# Altium schematic symbol library Schlib1.SchLib: 2 symbols
Pins are listed as number, name and electrical type; pins without a type are passive.

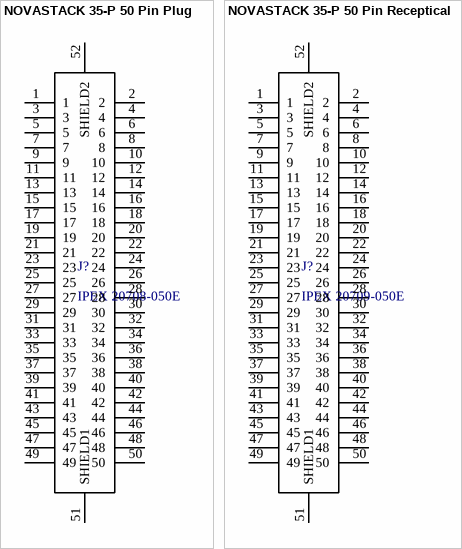
[diagram p0: symbols NOVASTACK 35-P 50 Pin Plug to NOVASTACK 35-P 50 Pin Receptical]

## NOVASTACK 35-P 50 Pin Plug
designator J?, comment IPEX 20708-050E
50-Pin Plug. Mates with 20709-050E. /
footprint IPEX_20708-050E-01
pins: 1, 2, 3, 4, 5, 6, 7, 8, 9, 10, 11, 12, 13, 14, 15, 16, 17, 18, 19, 20, 21, 22, 23, 24, 25, 26, 27, 28, 29, 30, 31, 32, 33, 34, 35, 36, 37, 38, 39, 40, 41, 42, 43, 44, 45, 46, 47, 48, 49, 50, 51 SHIELD1, 52 SHIELD2

## NOVASTACK 35-P 50 Pin Receptical
designator J?, comment IPEX 20709-050E
50-Pin Plug. Mates with 20708-050E. /
footprint IPEX_20709-050E-01_20709-050E-01(Primary)
pins: 1, 2, 3, 4, 5, 6, 7, 8, 9, 10, 11, 12, 13, 14, 15, 16, 17, 18, 19, 20, 21, 22, 23, 24, 25, 26, 27, 28, 29, 30, 31, 32, 33, 34, 35, 36, 37, 38, 39, 40, 41, 42, 43, 44, 45, 46, 47, 48, 49, 50, 51 SHIELD1, 52 SHIELD2